# Altium footprint library CN_SAMTEC_SSM-104-L-DV.PcbLib: 1 footprints
Each footprint in its own frame and in the unit in brackets; x right, y up, seen from the top. Pads: shape width x height; smd on the part's side, far side on the other; paste and mask are expansions set on the pad; w line width, h text height; cw(c..) or ccw(c..) is an arc to the next point about the centre after c.
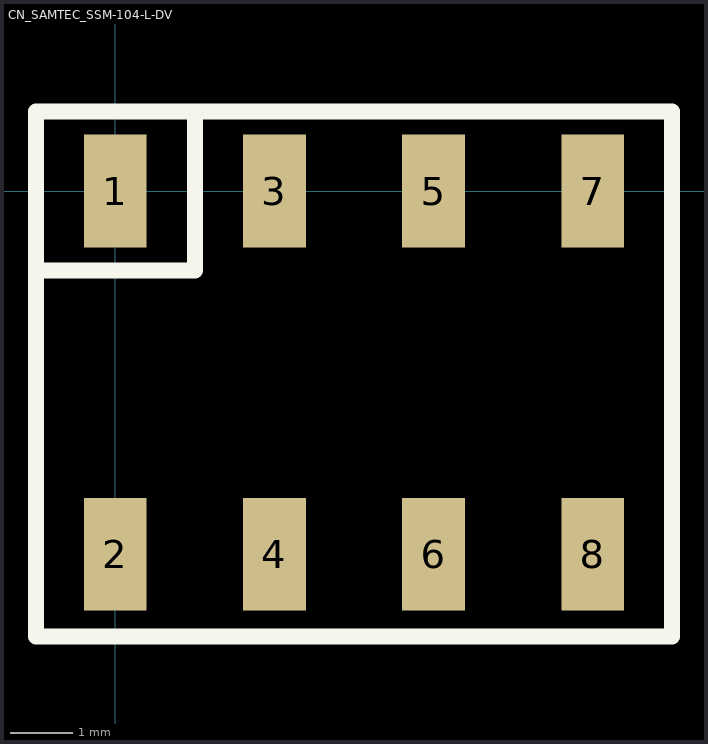
[diagram p0: the footprint, top view; thin cyan lines are the x and y axes]

## CN_SAMTEC_SSM-104-L-DV [mm]
pads (8):
  rect 1x1.8 smd: 1(0,0) 2(0,-5.8) 3(2.54,0) 4(2.54,-5.8) 5(5.08,0) 6(5.08,-5.8) 7(7.62,0) 8(7.62,-5.8)
Top Overlay:
  lines w0.254: -1.27,-1.27 1.27,-1.27 1.27,1.27 ; -1.27,-7.112 8.89,-7.112 8.89,1.27 -1.27,1.27 -1.27,-7.112
3D body: height 7.37, standoff -0.05, extent -1.27,-6.35 8.89,0.686